# EAGLE library part RFM95_96_97_98W (library Ava)
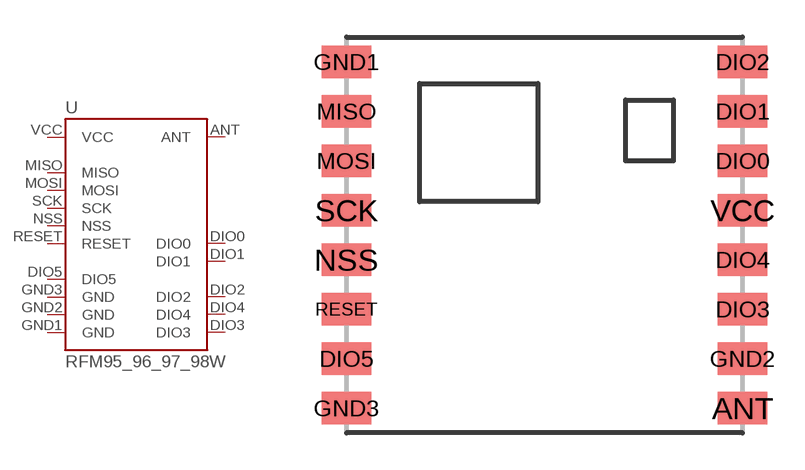
[diagram p42: symbol with the pads of RFM95_96_97_98W; footprint RFM95_96_97_98W]

Designator prefix -

## RFM95_96_97_98W  [RFM95_96_97_98W]
ANT  ANT
DIO0  DIO0  in
DIO1  DIO1  in
DIO2  DIO2
DIO3  DIO3
DIO4  DIO4
DIO5  DIO5  in
GND1  GND  pwr
GND2  GND  pwr
GND3  GND  pwr
MISO  MISO  out
MOSI  MOSI  in
NSS  NSS  in
RESET  RESET  out
SCK  SCK  in
VCC  VCC

## Footprint RFM95_96_97_98W (pad centres in mm)
smd 2 x 1.3: ANT 8,-7; DIO0 8,3; DIO1 8,5; DIO2 8,7; DIO3 8,-3; DIO4 8,-1; DIO5 -8,-5; GND1 -8,7; GND2 8,-5; GND3 -8,-7; MISO -8,5; MOSI -8,3; NSS -8,-1; RESET -8,-3; SCK -8,1; VCC 8,1